# EAGLE library part RTC-PCF8563 (library micromouse-timer-eagle7)
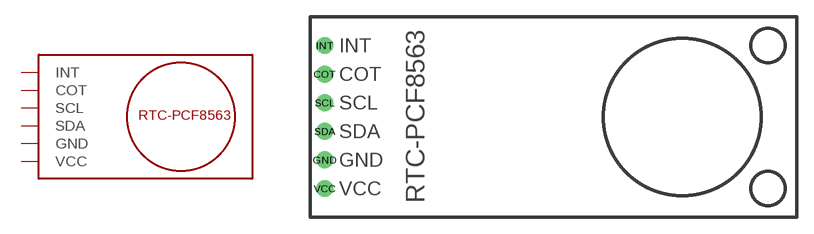
[diagram p9: symbol with the pads of RTC-PCF8563; footprint RTC-PCF8563]

Designator prefix M

## RTC-PCF8563  [RTC-PCF8563]
COT  COT
GND  GND
INT  INT
SCL  SCL
SDA  SDA
VCC  VCC

## Footprint RTC-PCF8563 (pad centres in mm)
drill 1: COT 1.27,3.81; GND 1.27,-3.81; INT 1.27,6.35; SCL 1.27,1.27; SDA 1.27,-1.27; VCC 1.27,-6.35